# Altium schematic symbol library TP-TOP.Schlib: 1 symbol
Pins are listed as number, name and electrical type; pins without a type are passive.

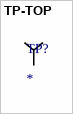
[diagram p0: symbol TP-TOP]

## TP-TOP
designator TP?
pins: 0